# Altium schematic symbol library SD-Mod.SchLib: 1 symbol
Pins are listed as number, name and electrical type; pins without a type are passive.

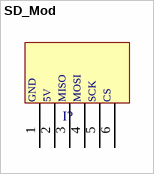
[diagram p0: symbol SD_Mod]

## SD_Mod
designator I?  (value not drawn)
footprint HPC_1x6
pins: 1 GND, 2 5V, 3 MISO, 4 MOSI, 5 SCK, 6 CS